# EAGLE library part USB-B-TH-FLAT-SIDE (library USB Connector)
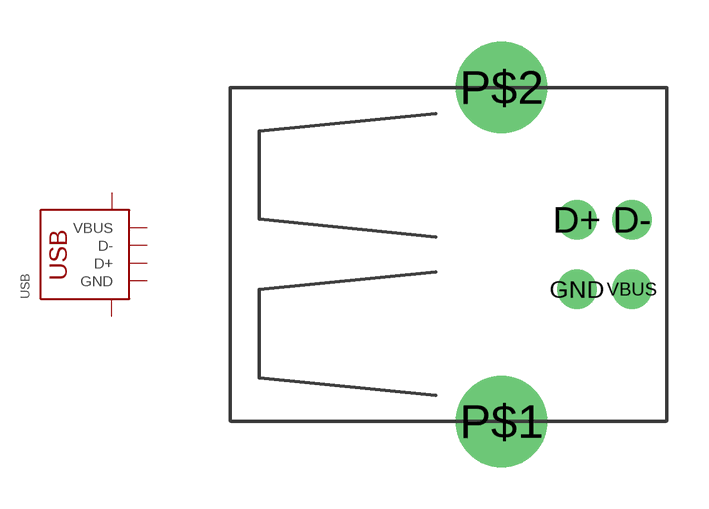
[diagram p6: symbol with the pads of USB-B-TH-FLAT-SIDE; footprint USB-B-TH-FLAT-SIDE]

Designator prefix USB

## USB-B-TH-FLAT-SIDE  [USB-B-TH-FLAT-SIDE]
D+  D+
D-  D-
GND  GND
P$1  SHIELD
P$2  SHIELD
VBUS  VBUS

## Footprint USB-B-TH-FLAT-SIDE (pad centres in mm)
USB Series B Hole Mounted
drill 0.914: D+ 0,1.25; D- 1.981,1.25; GND 0,-1.25; VBUS 1.981,-1.25
drill 2.286: P$1 -2.718,-6.02; P$2 -2.718,6.02